# Altium footprint library TE_3-644456-4.PcbLib: 1 footprints
Each footprint in its own frame and in the unit in brackets; x right, y up, seen from the top. Pads: shape width x height; smd on the part's side, far side on the other; paste and mask are expansions set on the pad; w line width, h text height; cw(c..) or ccw(c..) is an arc to the next point about the centre after c.
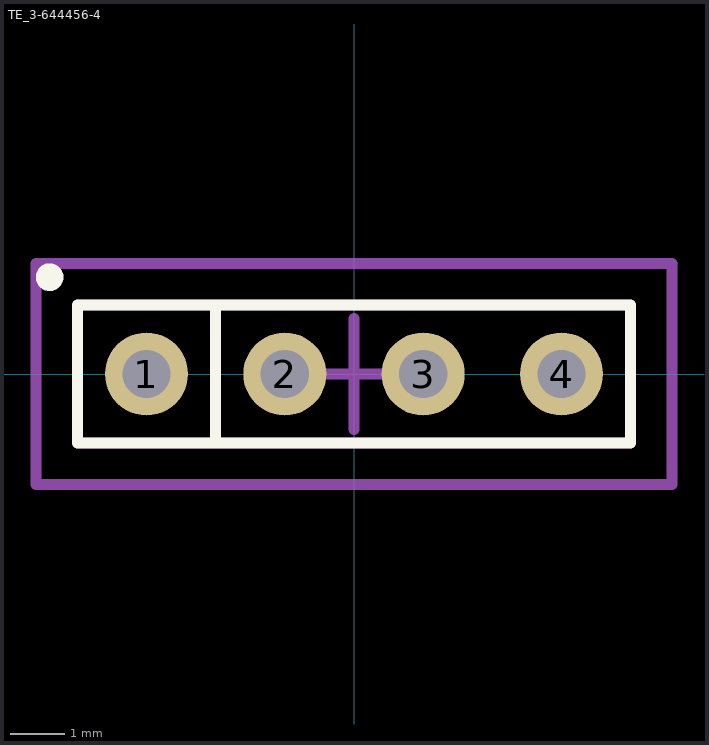
[diagram p0: the footprint, top view; thin cyan lines are the x and y axes]

## TE_3-644456-4 [mil]
pads (4):
  round 60 hole 35: 1(-150,0) 2(-50,0) 3(50,0) 4(150,0)
Top Overlay:
  circle w10: c-220,70 r5
  lines w7.87: -100,-50 -100,50 ; -200,-50 -200,50 200,50 200,-50 -200,-50
Mechanical 15:
  lines w7.87: -40,0 40,0 ; 0,-40 0,40 ; -230,-80 -230,80 230,80 230,-80 -230,-80
Mechanical 17:
  lines w7.87: -200,-50 200,-50 200,50 -200,50 -200,-50
  text ".Designator" at -190,-40 h30
Mechanical 19:
  lines w7.87: -200,-50 -200,50 200,50 200,-50 -200,-50
  text ".Comment" at -185,-35 h30
3D body: height 395, standoff -110, extent -194.09,-45.99 194.1,46.01